# EAGLE library part WE-RJ45_7499111615 (library Wurth_Signal & Communications_WE-RJ45_LAN)
WE-RJ45 LAN Transformer Characteristics RJ45 Connector with integrated transformer / common mode choke Power over Ethernet up to 50 Watt and speeds up to 10 Gbit/s Available in SMD, THT and THT with USB Compliant with standards: IEEE 802.3u, IEEE 802.3ab, IEEE 802.3af, IEEE 802.3at, IEEE 802.3an and upcoming IEE 802.3bt Applications Suitable for industrial temperatures from –40 °C up to +85 °C Compatible to Industrial Ethernet systems like EtherCAT or Profinet Compliant with most IC’s for Ethernet applications such as Microchip, Texas Instruments, Broadcom, Linear Technology Hubs, Routers, Switches, IP cameras, IoT applications <https://www.we-online.com/components/media/o35731v209%20Family-WE-RJ45LAN-7499xxxxxx.jpg> Details see: www.we-online.com/components/products/WE-LAN-RJ45 <www.we-online.com/catalog/WE-LAN-RJ45/?utm_source=eagle_model&utm_medium=description_link&utm_campaign=eisos_eagle> Updated by Ella Wu 2022-01-18 2022 (C) Wurth Elektronik
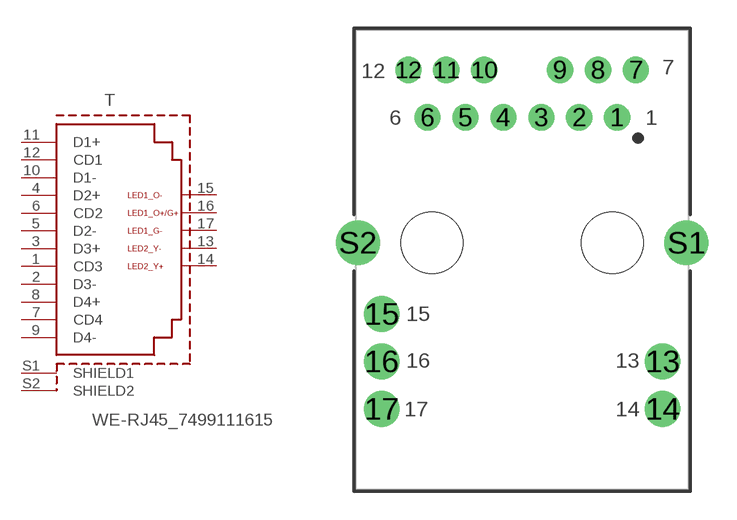
[diagram p55: symbol with the pads of 7499111615; footprint 7499111615]

Designator prefix T

## WE-RJ45_7499111615 (DATA-RATE: 1000 Base-T; DATASHEET-URL: https://www.we-online.com/redexpert/spec/7499111615?ae; LED: green/orange-yellow; MOUNT: THT; PART-NUMBER: 7499111615; POE: non-PoE; PORTS: 1; USB: No; VALUE: 7499111615)  [7499111615]
1  CD3  pas
2  D3-  pas
3  D3+  pas
4  D2+  pas
5  D2-  pas
6  CD2  pas
7  CD4  pas
8  D4+  pas
9  D4-  pas
10  D1-  pas
11  D1+  pas
12  CD1  pas
13  LED2_Y-  pas
14  LED2_Y+  pas
15  LED1_O-  pas
16  LED1_O+/G+  pas
17  LED1_G-  pas
S1  SHIELD1  pas
S2  SHIELD2  pas

## Footprint 7499111615 (pad centres in mm)
WE-RJ45 LAN Transformer 1000 Base-T
drill 0.89: 1 5.08,6.71; 2 3.05,6.71; 3 1.02,6.71; 4 -1.01,6.71; 5 -3.04,6.71; 6 -5.07,6.71; 7 6.09,9.25; 8 4.06,9.25; 9 2.03,9.25; 10 -2.03,9.25; 11 -4.06,9.25; 12 -6.09,9.25
drill 1.27: 13 7.52,-6.35; 14 7.52,-8.89; 15 -7.52,-3.81; 16 -7.52,-6.35; 17 -7.52,-8.89
drill 1.57: S1 8.79,0; S2 -8.79,0
hole 3.3 at -4.825,0
hole 3.3 at 4.825,0